# Altium schematic symbol library Electromechanical.SchLib: 10 symbols
Pins are listed as number, name and electrical type; pins without a type are passive.

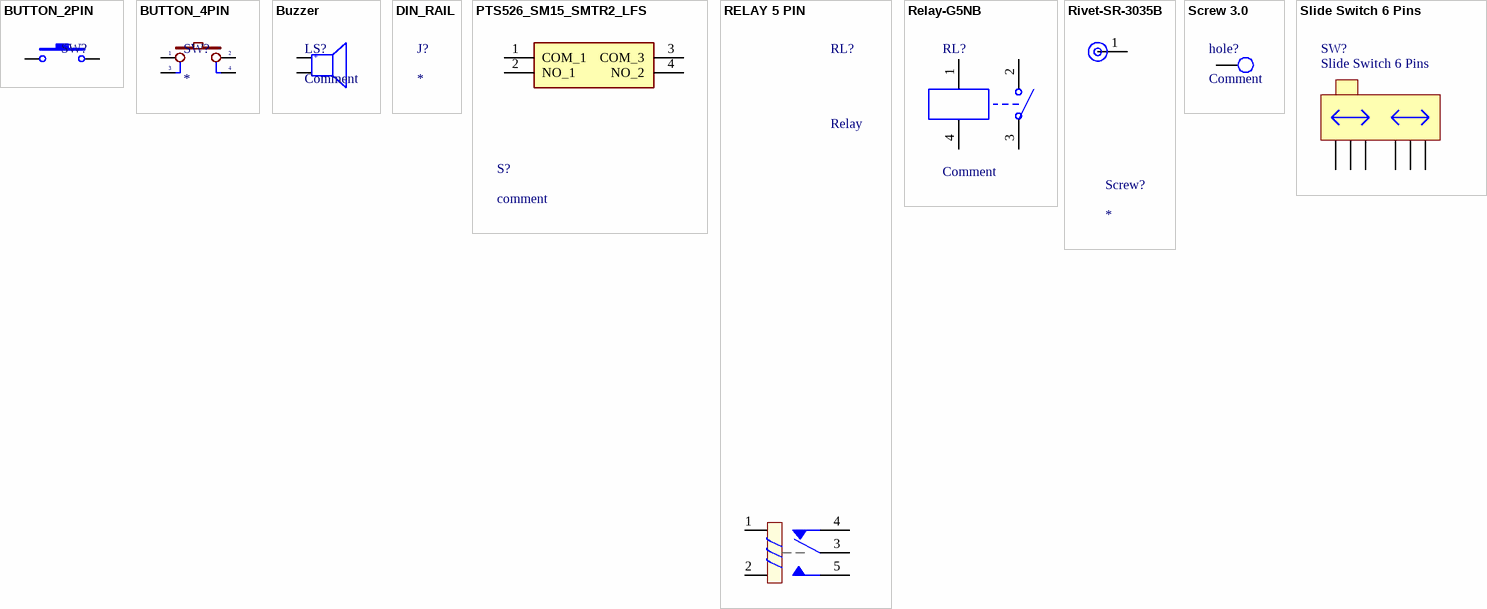
[diagram p0: symbols BUTTON_2PIN to Slide Switch 6 Pins]

## BUTTON_2PIN
designator SW?, comment Comment  (value not drawn)
=Description
pins: 1, 2

## BUTTON_4PIN
designator SW?
=Description
pins: 1, 2, 3, 4

## Buzzer
designator LS?, comment Comment
=Description
pins: 1, 2
text: +

## DIN_RAIL
designator J?
=Description

## PTS526_SM15_SMTR2_LFS
designator S?, comment comment
=Description; Manufacturer_Name: C & K COMPONENTS; Manufacturer_Part_Number: PTS526 SM15 SMTR2 LFS; Datasheet Link: https://www.mouser.com/datasheet/2/60/pts526-1651200.pdf; Height: 1.5mm; Mouser Part Number: 611-PTS526SM15SMTR2L; Mouser Price/Stock: https://www.mouser.co.uk/ProductDetail/CK/PTS526-SM15-SMTR2-LFS?qs=UXgszm6BlbENivbslIA%252B5g%3D%3D; Arrow Part Number: PTS526 SM15 SMTR2 LFS; Arrow Price/Stock: https://www.arrow.com/en/products/pts526-sm15-smtr2-lfs/ck?region=nac
footprint PTS526SM15SMTR2LFS
pins: 1 COM_1, 2 NO_1, 3 COM_3, 4 NO_2

## RELAY 5 PIN
designator RL?, comment Relay
=Description
pins: 1, 2, 3, 4, 5

## Relay-G5NB
designator RL?, comment Comment
=Description; Published: 24-Mar-1999; LatestRevisionDate: 17-Jul-2002; LatestRevisionNote: Re-released for DXP Platform.; PackageReference: DIP-P8; Publisher: Altium Limited
footprint RELAY-G5NB-1A-E 24VDC (20.5x7.2mm)
pins: 1 COM, 2 NC, 3 NO, 4

## Rivet-SR-3035B
designator Screw?
=Description
pins: 1

## Screw 3.0
designator hole?, comment Comment
=Description
pins: 1

## Slide Switch 6 Pins
designator SW?
=Description
pins: 1 NC, 2 NC, 3 COM, 4 COM, 5 NO, 6 NO